# EAGLE library part HEADER-10P-1R (library deiring-components)
Header 10 Pin 1 Row
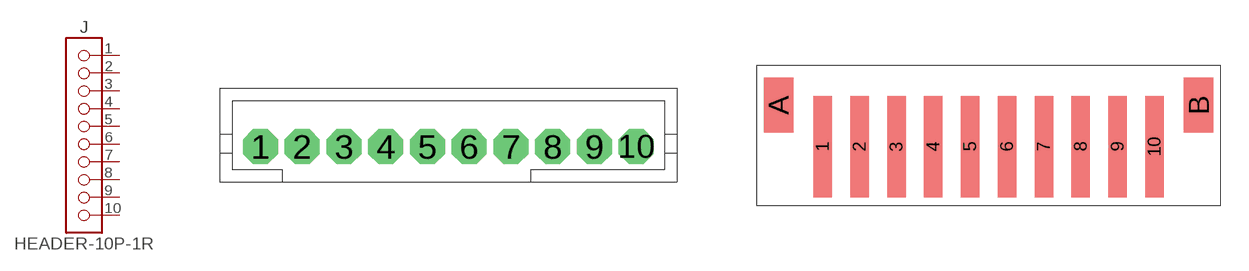
[diagram p11: symbol with the pads of JST-B10B-PH-K-S; footprints JST-B10B-PH-K-S, JST-B10B-PH-SM4-TB]

Designator prefix J

## HEADER-10P-1R-B10B-PH-K-S (LCSC: C158038; MF: JST Sales America; MPN: B10B-PH-K-S(LF)(SN); VALUE: 10P)  [JST-B10B-PH-K-S]
1  01  pas
2  02  pas
3  03  pas
4  04  pas
5  05  pas
6  06  pas
7  07  pas
8  08  pas
9  09  pas
10  10  pas

## HEADER-10P-1R-B10B-PH-SM4-TB (LCSC: C264997; MF: JST Sales America; MPN: B10B-PH-SM4-TB(LF)(SN); VALUE: 10P)  [JST-B10B-PH-SM4-TB]
Pads as for JST-B10B-PH-K-S

## HEADER-10P-1R-S10B-PH-K-S (LCSC: C157947; MF: JST Sales America; MPN: S10B-PH-K-S(LF)(SN); VALUE: 10P)  [JST-S10B-PH-K-S]
Pads as for JST-B10B-PH-K-S

## HEADER-10P-1R-S10B-PH-SM4-TB (LCSC: C265014; MF: JST Sales America; MPN: S10B-PH-SM4-TB(LF)(SN); VALUE: 10P)  [JST-S10B-PH-SM4-TB]
Pads as for JST-B10B-PH-K-S

## HEADER-10P-1R-KF2EDGV-5.08-10P (LCSC: C441351; MF: Cixi Kefa Elec; MPN: KF2EDGV-5.08-10P; VALUE: 10P)  [KF2EDGV-5.08-10P]
Pads as for JST-B10B-PH-K-S

## HEADER-10P-1R-WJ15EDGVC-3.81-10P (LCSC: C31932; MF: Ningbo Kangnex Elec; MPN: WJ15EDGVC-3.81-10P; VALUE: 10P)  [WJ15EDGVC-3.81-10P]
Pads as for JST-B10B-PH-K-S

## HEADER-10P-1R-KF2EDGR-5.08-10P (LCSC: C441201; MF: Cixi Kefa Elec; MPN: KF2EDGR-5.08-10P; VALUE: 10P)  [KF2EDGR-5.08-10P]
Pads as for JST-B10B-PH-K-S

## Footprint JST-B10B-PH-K-S (pad centres in mm)
drill 0.813 pad 1.676 octagon: 1 -9,0; 2 -7,0; 3 -5,0; 4 -3,0; 5 -1,0; 6 1,0; 7 3,0; 8 5,0; 9 7,0; 10 9,0

## Footprint JST-B10B-PH-SM4-TB (pad centres in mm)
smd 1 x 5.5: 1 -9,0; 2 -7,0; 3 -5,0; 4 -3,0; 5 -1,0; 6 1,0; 7 3,0; 8 5,0; 9 7,0; 10 9,0
smd 1.6 x 3: A -11.4,2.25; B 11.4,2.25

## Footprint JST-S10B-PH-K-S (pad centres in mm)
drill 0.813 pad 1.676 octagon: 1 -9,0; 2 -7,0; 3 -5,0; 4 -3,0; 5 -1,0; 6 1,0; 7 3,0; 8 5,0; 9 7,0; 10 9,0

## Footprint JST-S10B-PH-SM4-TB (pad centres in mm)
smd 1 x 3.5: 1 -9,0; 2 -7,0; 3 -5,0; 4 -3,0; 5 -1,0; 6 1,0; 7 3,0; 8 5,0; 9 7,0; 10 9,0
smd 1.5 x 3.4: A -11.35,5.55; B 11.35,5.55

## Footprint KF2EDGV-5.08-10P (pad centres in mm)
drill 1.6: 1 -22.86,0; 2 -17.78,0; 3 -12.7,0; 4 -7.62,0; 5 -2.54,0; 6 2.54,0; 7 7.62,0; 8 12.7,0; 9 17.78,0; 10 22.86,0

## Footprint WJ15EDGVC-3.81-10P (pad centres in mm)
drill 1.2 pad 2: 1 -17.145,0; 2 -13.335,0; 3 -9.525,0; 4 -5.715,0; 5 -1.905,0; 6 1.905,0; 7 5.715,0; 8 9.525,0; 9 13.335,0; 10 17.145,0

## Footprint KF2EDGR-5.08-10P (pad centres in mm)
drill 1.6: 1 -22.86,0; 2 -17.78,0; 3 -12.7,0; 4 -7.62,0; 5 -2.54,0; 6 2.54,0; 7 7.62,0; 8 12.7,0; 9 17.78,0; 10 22.86,0